# Altium footprint library Inductor_SMD.PcbLib: 587 footprints (part 13 of 37)
Each footprint in its own frame and in the unit in brackets; x right, y up, seen from the top. Pads: shape width x height; smd on the part's side, far side on the other; paste and mask are expansions set on the pad; w line width, h text height; cw(c..) or ccw(c..) is an arc to the next point about the centre after c.
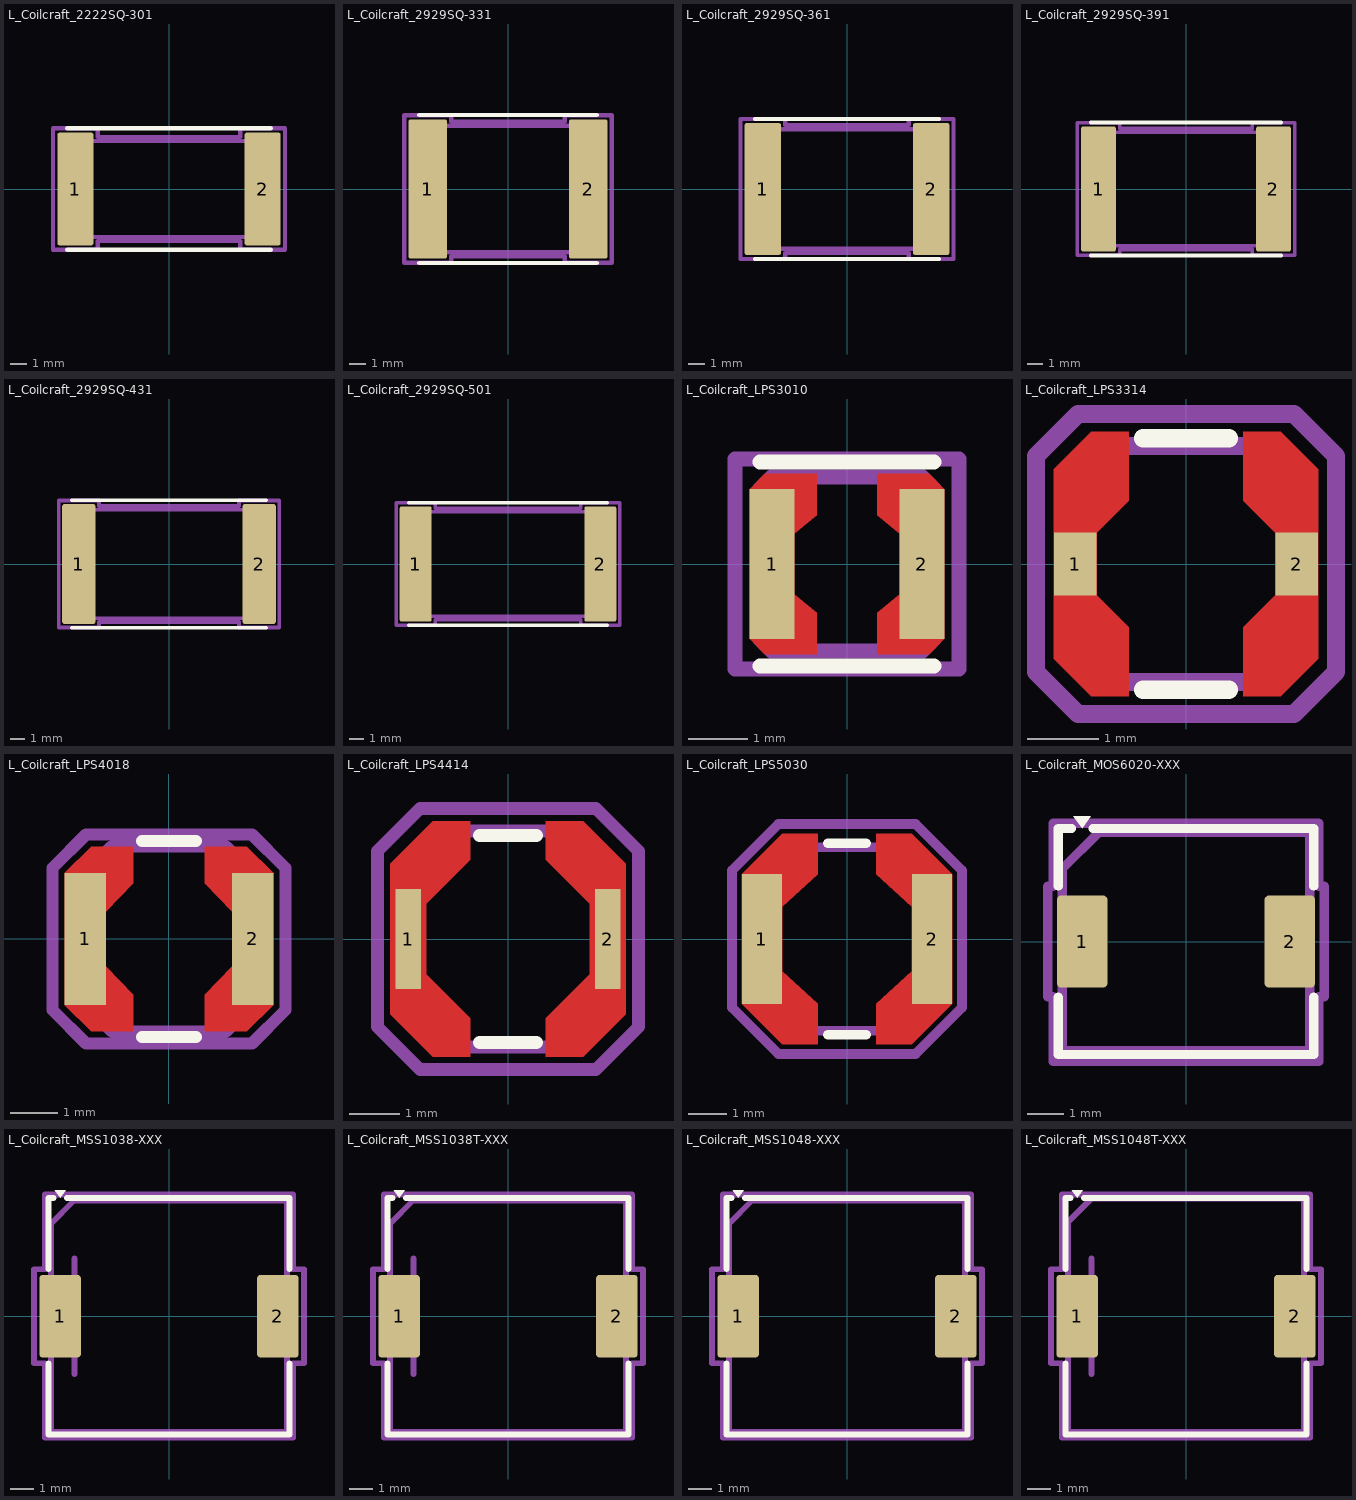
[diagram p12: the footprints below, top view; thin cyan lines are the x and y axes]

## L_Coilcraft_2222SQ-301 [mm] "L_Coilcraft_2222SQ-301"
pads (2):
  rrect12% 2.16x6.73 smd: 1(-5.59,0) 2(5.59,0)
F.SilkS:
  lines w0.254: -6.08,-3.625 6.08,-3.625 ; -6.08,3.625 6.08,3.625
Top Assembly:
  lines w0.254: -5.97,-2.86 -5.97,2.86 5.97,2.86 5.97,-2.86 -5.97,-2.86
  text "'.Designator'" at -4.047,-0.84 h1
Top Courtyard:
  lines w0.254: -6.92,-3.62 -6.92,3.62 -4.26,3.62 -4.26,3.11 4.26,3.11 4.26,3.62 6.92,3.62 6.92,-3.62 4.26,-3.62 4.26,-3.11 -4.26,-3.11 -4.26,-3.62 -6.92,-3.62
Top Designator:
  text ".Designator" at -7.618,-0.508 h1.52
3D body "L_Coilcraft_2222SQ-301.step": height 5.72, standoff 0, extent -6.13,-2.86 6.13,2.86

## L_Coilcraft_2929SQ-331 [mm] "L_Coilcraft_2929SQ-331"
pads (2):
  rrect11% 2.29x8.26 smd: 1(-4.765,0) 2(4.765,0)
F.SilkS:
  lines w0.254: -5.255,-4.39 5.255,-4.39 ; -5.255,4.39 5.255,4.39
Top Assembly:
  lines w0.254: -5.145,-3.745 -5.145,3.745 5.145,3.745 5.145,-3.745 -5.145,-3.745
  text "'.Designator'" at -4.047,-0.84 h1
Top Courtyard:
  lines w0.254: -6.16,-4.38 -6.16,4.38 -3.36,4.38 -3.36,4 3.36,4 3.36,4.38 6.16,4.38 6.16,-4.38 3.36,-4.38 3.36,-4 -3.36,-4 -3.36,-4.38 -6.16,-4.38
Top Designator:
  text ".Designator" at -7.618,-0.508 h1.52
3D body "L_Coilcraft_2929SQ-331.step": height 7.49, standoff 0, extent -5.338,-3.745 5.338,3.745

## L_Coilcraft_2929SQ-361 [mm] "L_Coilcraft_2929SQ-361"
pads (2):
  rrect11% 2.29x8.26 smd: 1(-5.271,0) 2(5.271,0)
F.SilkS:
  lines w0.254: -5.76,-4.39 5.76,-4.39 ; -5.76,4.39 5.76,4.39
Top Assembly:
  lines w0.254: -5.65,-3.745 -5.65,3.745 5.65,3.745 5.65,-3.745 -5.65,-3.745
  text "'.Designator'" at -4.047,-0.84 h1
Top Courtyard:
  lines w0.254: -6.67,-4.38 -6.67,4.38 -3.87,4.38 -3.87,4 3.87,4 3.87,4.38 6.67,4.38 6.67,-4.38 3.87,-4.38 3.87,-4 -3.87,-4 -3.87,-4.38 -6.67,-4.38
Top Designator:
  text ".Designator" at -7.618,-0.508 h1.52
3D body "L_Coilcraft_2929SQ-361.step": height 7.49, standoff 0, extent -5.843,-3.745 5.843,3.745

## L_Coilcraft_2929SQ-391 [mm] "L_Coilcraft_2929SQ-391"
pads (2):
  rrect11% 2.29x8.26 smd: 1(-5.78,0) 2(5.78,0)
F.SilkS:
  lines w0.254: -6.27,-4.39 6.27,-4.39 ; -6.27,4.39 6.27,4.39
Top Assembly:
  lines w0.254: -6.16,-3.745 6.16,-3.745 6.16,3.745 -6.16,3.745 -6.16,-3.745
  text "'.Designator'" at -4.047,-0.84 h1
Top Courtyard:
  lines w0.254: -7.18,-4.38 -4.38,-4.38 -4.38,-4 4.38,-4 4.38,-4.38 7.18,-4.38 7.18,4.38 4.38,4.38 4.38,4 -4.38,4 -4.38,4.38 -7.18,4.38 -7.18,-4.38
Top Designator:
  text ".Designator" at -7.618,-0.508 h1.52
3D body "L_Coilcraft_2929SQ-391.step": height 7.49, standoff 0, extent -6.352,-3.745 6.352,3.745

## L_Coilcraft_2929SQ-431 [mm] "L_Coilcraft_2929SQ-431"
pads (2):
  rrect11% 2.29x8.26 smd: 1(-6.225,0) 2(6.225,0)
F.SilkS:
  lines w0.254: -6.715,-4.39 6.715,-4.39 ; -6.715,4.39 6.715,4.39
Top Assembly:
  lines w0.254: -6.605,-3.745 -6.605,3.745 6.605,3.745 6.605,-3.745 -6.605,-3.745
  text "'.Designator'" at -4.047,-0.84 h1
Top Courtyard:
  lines w0.254: -7.62,-4.38 -7.62,4.38 -4.83,4.38 -4.83,4 4.83,4 4.83,4.38 7.62,4.38 7.62,-4.38 4.83,-4.38 4.83,-4 -4.83,-4 -4.83,-4.38 -7.62,-4.38
Top Designator:
  text ".Designator" at -7.618,-0.508 h1.52
3D body "L_Coilcraft_2929SQ-431.step": height 7.49, standoff 0, extent -6.797,-3.745 6.797,3.745

## L_Coilcraft_2929SQ-501 [mm] "L_Coilcraft_2929SQ-501"
pads (2):
  rrect11% 2.29x8.26 smd: 1(-6.605,0) 2(6.605,0)
F.SilkS:
  lines w0.254: -7.11,-4.39 7.11,-4.39 ; -7.11,4.39 7.11,4.39
Top Assembly:
  lines w0.254: -7,-3.745 7,-3.745 7,3.745 -7,3.745 -7,-3.745
  text "'.Designator'" at -4.047,-0.84 h1
Top Courtyard:
  lines w0.254: -8,-4.38 -5.21,-4.38 -5.21,-4 5.21,-4 5.21,-4.38 8,-4.38 8,4.38 5.21,4.38 5.21,4 -5.21,4 -5.21,4.38 -8,4.38 -8,-4.38
Top Designator:
  text ".Designator" at -7.618,-0.508 h1.52
3D body "L_Coilcraft_2929SQ-501.step": height 7.49, standoff 0, extent -7.177,-3.745 7.177,3.745

## L_Coilcraft_LPS3010 [mm] "L_Coilcraft_LPS3010"
pads (2):
  rect 0.76x2.54 smd: 1(-1.27,0) 2(1.27,0)
F.Cu:
  region: -0.51,0.825 -0.89,0.51 -0.89,-0.51 -0.51,-0.825 -0.51,-1.525 -1.395,-1.525 -1.65,-1.27 -1.65,1.27 -1.395,1.525 -0.51,1.525
  region: 1.65,1.27 1.65,-1.27 1.395,-1.525 0.51,-1.525 0.51,-0.825 0.89,-0.51 0.89,0.51 0.51,0.825 0.51,1.525 1.395,1.525
F.SilkS:
  lines w0.254: -1.475,-1.725 1.475,-1.725 ; -1.475,1.725 1.475,1.725
F.Paste:
  region: -0.51,0.825 -0.89,0.51 -0.89,-0.51 -0.51,-0.825 -0.51,-1.525 -1.395,-1.525 -1.65,-1.27 -1.65,1.27 -1.395,1.525 -0.51,1.525
  region: 1.65,1.27 1.65,-1.27 1.395,-1.525 0.51,-1.525 0.51,-0.825 0.89,-0.51 0.89,0.51 0.51,0.825 0.51,1.525 1.395,1.525
F.Mask:
  region: -0.51,0.825 -0.89,0.51 -0.89,-0.51 -0.51,-0.825 -0.51,-1.525 -1.395,-1.525 -1.65,-1.27 -1.65,1.27 -1.395,1.525 -0.51,1.525
  region: 1.65,1.27 1.65,-1.27 1.395,-1.525 0.51,-1.525 0.51,-0.825 0.89,-0.51 0.89,0.51 0.51,0.825 0.51,1.525 1.395,1.525
Top Assembly:
  lines w0.254: -1.475,-1.275 -1.475,1.275 -1.275,1.475 1.275,1.475 1.475,1.275 1.475,-1.275 1.275,-1.475 -1.275,-1.475 -1.475,-1.275
  text "'.Designator'" at -2.828,-0.583 h0.7
Top Courtyard:
  lines w0.254: -1.9,-1.78 -1.9,1.78 1.9,1.78 1.9,-1.78 -1.9,-1.78
Top Designator:
  text ".Designator" at -7.718,-0.508 h1.52

## L_Coilcraft_LPS3314 [mm] "L_Coilcraft_LPS3314"
pads (2):
  rect 0.6x0.881 smd: 1(-1.55,0) 2(1.55,0)
F.Cu:
  region: 1.85,1.325 1.85,-1.325 1.325,-1.85 0.8,-1.85 0.8,-0.885 1.25,-0.44 1.25,0.44 0.8,0.885 0.8,1.85 1.325,1.85
  region: -0.8,0.885 -1.25,0.44 -1.25,-0.44 -0.8,-0.885 -0.8,-1.85 -1.325,-1.85 -1.85,-1.325 -1.85,1.325 -1.325,1.85 -0.8,1.85
F.SilkS:
  lines w0.254: -0.6,-1.76 0.6,-1.76 ; -0.6,1.76 0.6,1.76
F.Paste:
  region: 1.85,1.325 1.85,-1.325 1.325,-1.85 0.8,-1.85 0.8,-0.885 1.25,-0.44 1.25,0.44 0.8,0.885 0.8,1.85 1.325,1.85
  region: -0.8,0.885 -1.25,0.44 -1.25,-0.44 -0.8,-0.885 -0.8,-1.85 -1.325,-1.85 -1.85,-1.325 -1.85,1.325 -1.325,1.85 -0.8,1.85
F.Mask:
  region: 1.85,1.325 1.85,-1.325 1.325,-1.85 0.8,-1.85 0.8,-0.885 1.25,-0.44 1.25,0.44 0.8,0.885 0.8,1.85 1.325,1.85
  region: -0.8,0.885 -1.25,0.44 -1.25,-0.44 -0.8,-0.885 -0.8,-1.85 -1.325,-1.85 -1.85,-1.325 -1.85,1.325 -1.325,1.85 -0.8,1.85
Top Assembly:
  lines w0.254: -1.65,-0.95 -0.95,-1.65 0.95,-1.65 1.65,-0.95 1.65,0.95 0.95,1.65 -0.95,1.65 -1.65,0.95 -1.65,-0.95
  text "'.Designator'" at -3.237,-0.672 h0.8
Top Courtyard:
  lines w0.254: -2.1,-1.51 -1.51,-2.1 1.51,-2.1 2.1,-1.51 2.1,1.51 1.51,2.1 -1.51,2.1 -2.1,1.51 -2.1,-1.51
Top Designator:
  text ".Designator" at -7.738,-0.508 h1.52

## L_Coilcraft_LPS4018 [mm] "L_Coilcraft_LPS4018"
pads (2):
  rect 0.87x2.79 smd: 1(-1.765,0) 2(1.765,0)
F.Cu:
  region: -0.75,1.17 -1.33,0.575 -1.33,-0.575 -0.75,-1.17 -0.75,-1.945 -1.64,-1.945 -2.2,-1.395 -2.2,1.395 -1.64,1.945 -0.75,1.945
  region: 2.2,1.395 2.2,-1.395 1.64,-1.945 0.75,-1.945 0.75,-1.17 1.33,-0.575 1.33,0.575 0.75,1.17 0.75,1.945 1.64,1.945
F.SilkS:
  lines w0.254: -0.57,-2.06 0.57,-2.06 ; -0.57,2.06 0.57,2.06
F.Paste:
  region: -0.75,1.17 -1.33,0.575 -1.33,-0.575 -0.75,-1.17 -0.75,-1.945 -1.64,-1.945 -2.2,-1.395 -2.2,1.395 -1.64,1.945 -0.75,1.945
  region: 2.2,1.395 2.2,-1.395 1.64,-1.945 0.75,-1.945 0.75,-1.17 1.33,-0.575 1.33,0.575 0.75,1.17 0.75,1.945 1.64,1.945
F.Mask:
  region: -0.75,1.17 -1.33,0.575 -1.33,-0.575 -0.75,-1.17 -0.75,-1.945 -1.64,-1.945 -2.2,-1.395 -2.2,1.395 -1.64,1.945 -0.75,1.945
  region: 2.2,1.395 2.2,-1.395 1.64,-1.945 0.75,-1.945 0.75,-1.17 1.33,-0.575 1.33,0.575 0.75,1.17 0.75,1.945 1.64,1.945
Top Assembly:
  lines w0.254: -1.21,1.95 -1.95,1.2 -1.95,-1.2 -1.2,-1.95 1.2,-1.95 1.95,-1.2 1.95,1.2 1.2,1.95 -1.2,1.95
  text "'.Designator'" at -3.237,-0.672 h0.8
Top Courtyard:
  lines w0.254: -2.45,-1.5 -2.45,1.5 -1.75,2.2 1.75,2.2 2.45,1.5 2.45,-1.5 1.75,-2.2 -1.75,-2.2 -2.45,-1.5
Top Designator:
  text ".Designator" at -7.738,-0.508 h1.52

## L_Coilcraft_LPS4414 [mm] "L_Coilcraft_LPS4414"
pads (2):
  rect 0.5x2 smd: 1(-1.987,0) 2(1.987,0)
F.Cu:
  region: -0.75,1.575 -1.625,0.7 -1.625,-0.7 -0.75,-1.575 -0.75,-2.35 -1.5,-2.35 -2.35,-1.5 -2.35,1.5 -1.5,2.35 -0.75,2.35
  region: 2.35,1.5 2.35,-1.5 1.5,-2.35 0.75,-2.35 0.75,-1.575 1.625,-0.7 1.625,0.7 0.75,1.575 0.75,2.35 1.5,2.35
F.SilkS:
  lines w0.254: -0.57,-2.06 0.57,-2.06 ; -0.57,2.06 0.57,2.06
F.Paste:
  region: -0.75,1.575 -1.625,0.7 -1.625,-0.7 -0.75,-1.575 -0.75,-2.35 -1.5,-2.35 -2.35,-1.5 -2.35,1.5 -1.5,2.35 -0.75,2.35
  region: 2.35,1.5 2.35,-1.5 1.5,-2.35 0.75,-2.35 0.75,-1.575 1.625,-0.7 1.625,0.7 0.75,1.575 0.75,2.35 1.5,2.35
F.Mask:
  region: -0.75,1.575 -1.625,0.7 -1.625,-0.7 -0.75,-1.575 -0.75,-2.35 -1.5,-2.35 -2.35,-1.5 -2.35,1.5 -1.5,2.35 -0.75,2.35
  region: 2.35,1.5 2.35,-1.5 1.5,-2.35 0.75,-2.35 0.75,-1.575 1.625,-0.7 1.625,0.7 0.75,1.575 0.75,2.35 1.5,2.35
Top Assembly:
  lines w0.254: -2.15,-1.4 -2.15,1.4 -1.4,2.15 1.4,2.15 2.15,1.4 2.15,-1.4 1.4,-2.15 -1.4,-2.15 -2.15,-1.4
  text "'.Designator'" at -3.237,-0.672 h0.8
Top Courtyard:
  lines w0.254: -2.6,-1.75 -2.6,1.75 -1.75,2.6 1.75,2.6 2.6,1.75 2.6,-1.75 1.75,-2.6 -1.75,-2.6 -2.6,-1.75
Top Designator:
  text ".Designator" at -7.738,-0.508 h1.52

## L_Coilcraft_LPS5030 [mm] "L_Coilcraft_LPS5030"
pads (2):
  rect 1.055x3.4 smd: 1(-2.228,0) 2(2.228,0)
F.Cu:
  region: 2.755,1.7 2.755,-1.7 1.7,-2.755 0.76,-2.755 0.76,-1.7 1.7,-0.844 1.7,0.844 0.76,1.7 0.76,2.755 1.7,2.755
  region: -0.76,1.7 -1.7,0.844 -1.7,-0.844 -0.76,-1.7 -0.76,-2.755 -1.7,-2.755 -2.755,-1.7 -2.755,1.7 -1.7,2.755 -0.76,2.755
F.SilkS:
  lines w0.254: -0.5,-2.51 0.5,-2.51 ; -0.5,2.51 0.5,2.51
F.Paste:
  region: 2.755,1.7 2.755,-1.7 1.7,-2.755 0.76,-2.755 0.76,-1.7 1.7,-0.844 1.7,0.844 0.76,1.7 0.76,2.755 1.7,2.755
  region: -0.76,1.7 -1.7,0.844 -1.7,-0.844 -0.76,-1.7 -0.76,-2.755 -1.7,-2.755 -2.755,-1.7 -2.755,1.7 -1.7,2.755 -0.76,2.755
F.Mask:
  region: 2.755,1.7 2.755,-1.7 1.7,-2.755 0.76,-2.755 0.76,-1.7 1.7,-0.844 1.7,0.844 0.76,1.7 0.76,2.755 1.7,2.755
  region: -0.76,1.7 -1.7,0.844 -1.7,-0.844 -0.76,-1.7 -0.76,-2.755 -1.7,-2.755 -2.755,-1.7 -2.755,1.7 -1.7,2.755 -0.76,2.755
Top Assembly:
  lines w0.254: -2.4,-1.4 -1.4,-2.4 1.4,-2.4 2.4,-1.4 2.4,1.4 1.4,2.4 -1.4,2.4 -2.4,1.4 -2.4,-1.4
  text "'.Designator'" at -4.047,-0.84 h1
Top Courtyard:
  lines w0.254: -3.01,-1.8 -1.8,-3.01 1.8,-3.01 3.01,-1.8 3.01,1.8 1.8,3.01 -1.8,3.01 -3.01,1.8 -3.01,-1.8
Top Designator:
  text ".Designator" at -7.768,-0.508 h1.52

## L_Coilcraft_MOS6020-XXX [mm] "L_Coilcraft_MOS6020-XXX"
pads (2):
  rrect18% 1.39x2.54 smd: 1(-2.855,0) 2(2.855,0)
F.SilkS:
  region: -2.855,3.11 -3.095,3.44 -2.615,3.44
  lines w0.254: -3.51,-1.53 -3.51,-3.11 3.51,-3.11 3.51,-1.53 ; -3.51,1.53 -3.51,3.11 -3.152,3.11 ; -2.558,3.11 3.51,3.11 3.51,1.53
Top Assembly:
  lines w0.254: -3.4,2 -3.4,-3 3.4,-3 3.4,3 -2.4,3 -3.4,2 ; -3.4,2 -3.4,2 ; -3.4,2 -3.4,2
Top Courtyard:
  lines w0.254: -3.8,-1.52 -3.8,1.52 -3.65,1.52 -3.65,3.25 3.65,3.25 3.65,1.52 3.8,1.52 3.8,-1.52 3.65,-1.52 3.65,-3.302 -3.65,-3.302 -3.65,-1.52 -3.8,-1.52
Top Designator:
  text ".Designator" at -7.745,0 h1.52
3D body "L_Coilcraft_MOS6020-XXX.step": height 2.4, standoff 0, extent -3.4,-3 3.4,3

## L_Coilcraft_MSS1038-XXX [mm] "L_Coilcraft_MSS1038-XXX"
pads (2):
  rrect14% 1.78x3.56 smd: 1(-4.7,0) 2(4.7,0)
F.SilkS:
  region: -4.7,5.11 -4.94,5.44 -4.46,5.44
  lines w0.254: -5.21,-2.04 -5.21,-5.11 5.21,-5.11 5.21,-2.04 ; -5.21,2.04 -5.21,5.11 -4.997,5.11 ; -4.403,5.11 5.21,5.11 5.21,2.04
Top Assembly:
  lines w0.254: -4.08,-2.5 -4.08,2.5 ; -5.1,-5 5.1,-5 5.1,5 -4.1,5 -5.1,4 -5.1,-5
  text "'.Designator'" at -4.047,-0.84 h1
Top Courtyard:
  lines w0.254: -5.84,-2.03 -5.35,-2.03 -5.35,-5.25 5.35,-5.25 5.35,-2.03 5.84,-2.03 5.84,2.03 5.35,2.03 5.35,5.25 -5.35,5.25 -5.35,2.03 -5.84,2.03 -5.84,-2.03
Top Designator:
  text ".Designator" at -7.618,-0.476 h1.52
3D body "L_Coilcraft_MSS1038-XXX.step": height 3.8, standoff 0, extent -5.15,-5 5.15,5

## L_Coilcraft_MSS1038T-XXX [mm] "L_Coilcraft_MSS1038T-XXX"
pads (2):
  rrect14% 1.78x3.56 smd: 1(-4.7,0) 2(4.7,0)
F.SilkS:
  region: -4.7,5.11 -4.94,5.44 -4.46,5.44
  lines w0.254: -5.21,-2.04 -5.21,-5.11 5.21,-5.11 5.21,-2.04 ; -5.21,2.04 -5.21,5.11 -4.997,5.11 ; -4.403,5.11 5.21,5.11 5.21,2.04
Top Assembly:
  lines w0.254: -4.08,-2.5 -4.08,2.5 ; -5.1,-5 5.1,-5 5.1,5 -4.1,5 -5.1,4 -5.1,-5
  text "'.Designator'" at -4.047,-0.84 h1
Top Courtyard:
  lines w0.254: -5.84,-2.03 -5.84,2.03 -5.35,2.03 -5.35,5.25 5.35,5.25 5.35,2.03 5.84,2.03 5.84,-2.03 5.35,-2.03 5.35,-5.25 -5.35,-5.25 -5.35,-2.03 -5.84,-2.03
Top Designator:
  text ".Designator" at -7.618,-0.476 h1.52
3D body "L_Coilcraft_MSS1038T-XXX.step": height 3.8, standoff 0, extent -5.023,-5 5.277,5

## L_Coilcraft_MSS1048-XXX [mm] "L_Coilcraft_MSS1048-XXX"
pads (2):
  rrect14% 1.78x3.56 smd: 1(-4.7,0) 2(4.7,0)
F.SilkS:
  region: -4.7,5.11 -4.94,5.44 -4.46,5.44
  lines w0.254: -5.21,-2.04 -5.21,-5.11 5.21,-5.11 5.21,-2.04 ; -5.21,2.04 -5.21,5.11 -4.997,5.11 ; -4.403,5.11 5.21,5.11 5.21,2.04
Top Assembly:
  lines w0.254: -5.1,-5 5.1,-5 5.1,5 -4.1,5 -5.1,4 -5.1,-5
  text "'.Designator'" at -3.683,-0.889 h1
Top Courtyard:
  lines w0.254: -5.84,-2.03 -5.35,-2.03 -5.35,-5.25 5.35,-5.25 5.35,-2.03 5.84,-2.03 5.84,2.03 5.35,2.03 5.35,5.25 -5.35,5.25 -5.35,2.03 -5.84,2.03 -5.84,-2.03
Top Designator:
  text ".Designator" at -7.618,-0.476 h1.52
3D body "L_Coilcraft_MSS1048-XXX.step": height 4.8, standoff 0, extent -5.25,-5 5.25,5

## L_Coilcraft_MSS1048T-XXX [mm] "L_Coilcraft_MSS1048T-XXX"
pads (2):
  rrect14% 1.78x3.56 smd: 1(-4.7,0) 2(4.7,0)
F.SilkS:
  region: -4.7,5.11 -4.94,5.44 -4.46,5.44
  lines w0.254: -5.21,-2.04 -5.21,-5.11 5.21,-5.11 5.21,-2.04 ; -5.21,2.04 -5.21,5.11 -4.997,5.11 ; -4.403,5.11 5.21,5.11 5.21,2.04
Top Assembly:
  lines w0.254: -5.1,4 -5.1,-5 5.1,-5 5.1,5 ; -5.092,4.08 -4.092,5.08 5.108,5.08 ; -4.08,-2.5 -4.08,2.5
  text "'.Designator'" at -4.047,-0.84 h1
Top Courtyard:
  lines w0.254: -5.84,-2.03 -5.84,2.03 -5.35,2.03 -5.35,5.25 5.35,5.25 5.35,2.03 5.84,2.03 5.84,-2.03 5.35,-2.03 5.35,-5.25 -5.35,-5.25 -5.35,-2.03 -5.84,-2.03
Top Designator:
  text ".Designator" at -7.618,-0.476 h1.52
3D body "L_Coilcraft_MSS1048T-XXX.step": height 4.8, standoff 0, extent -5.25,-5 5.25,5